# Altium integrated library iot-vehicle-tracking-system-main.IntLib: 85 symbols
Pins are listed as number, name and electrical type; pins without a type are passive.

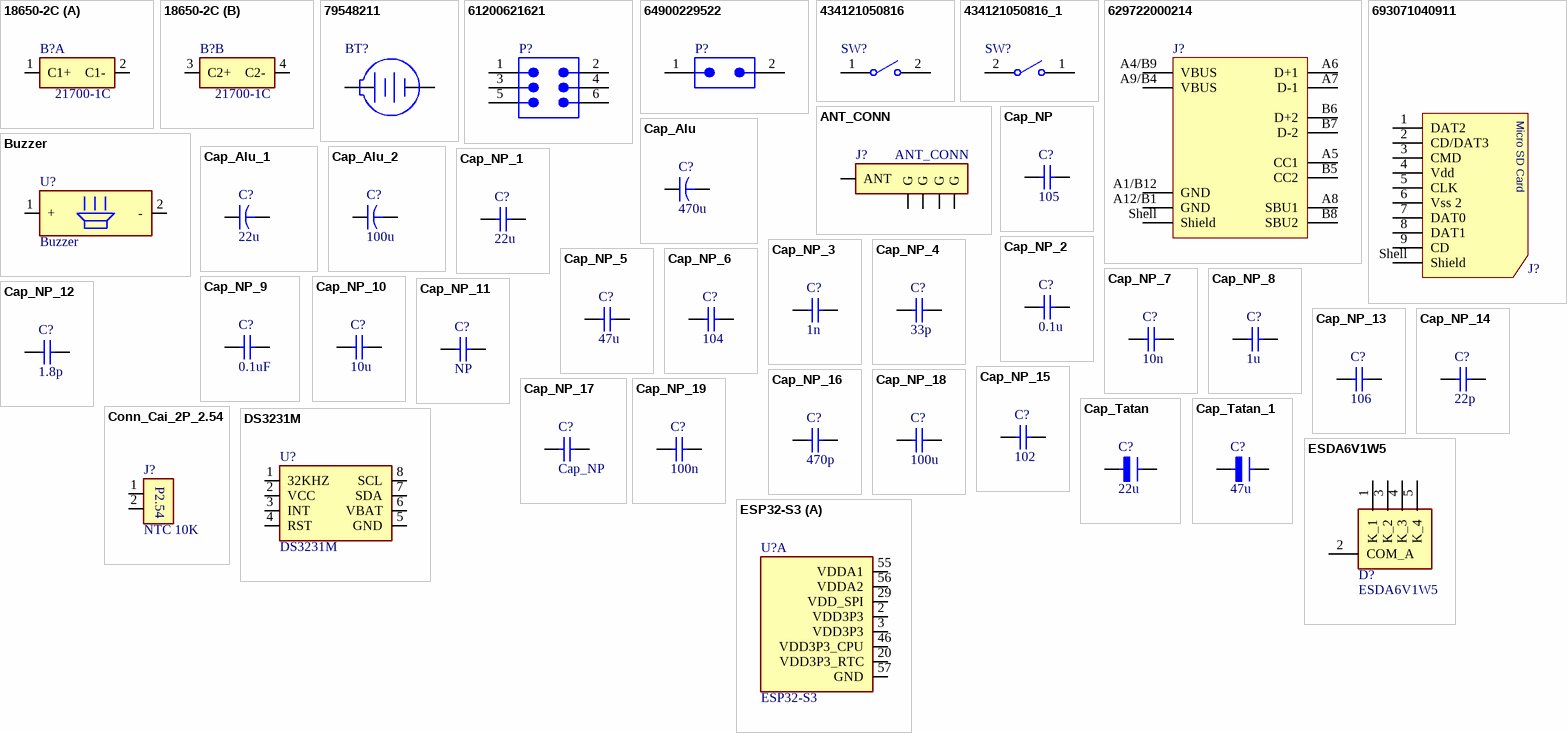
[diagram p0: symbols 18650-2C to ESP32-S3]

## 18650-2C
designator B?, comment 21700-1C
footprint 18650-2C (2Cell 18650 battery holder)
part A pins: 1 C1+, 2 C1-
part B pins: 3 C2+, 4 C2-

## 79548211
designator BT?  (value not drawn)
WA-BCPH Battery Holder, THT, battery type 2032; Manufacturer: Wurth Elektronik; Battery Type: 2032; Manufacturer Part Number: 79548211; Category: Battery Holders; Match Code: WA-BCPH; ComponentLink1Description: Website Link; ComponentLink1URL: https://www.we-online.com/redexpert/article/79548211?ad; ComponentLink2Description: Datasheet Link; ComponentLink2URL: https://www.we-online.com/redexpert/spec/79548211?ad; Mount: Through Hole; Min Operating Temperature: -40°C; Max Operating Temperature: 105°C; Packaging: Bag
footprint 79548211
pins: 1 +, 2 -

## 61200621621
designator P?  (value not drawn)
WR-BHD Male Box Header, THT Straight, pitch 2.54 mm, 2 Rows, 6 Pins; Manufacturer: Wurth Elektronik; Contact Resistance: 20 mΩ; Insulation Resistance: 1000 MΩ; Pitch: 2.54 mm; Rated Current: 3 A; Working Voltage: 250 V; Withstanding Voltage: 500 V; Manufacturer Part Number: 61200621621; Category: Wire-to-Board Connector; Match Code: WR-BHD; ComponentLink1Description: Website Link; ComponentLink1URL: https://www.we-online.com/redexpert/article/61200621621?ad; ComponentLink2Description: Datasheet Link; ComponentLink2URL: https://www.we-online.com/redexpert/spec/61200621621?ad; Mount: Through Hole; Min Operating Temperature: -40 °C; Max Operating Temperature: 105 °C; Packaging: Tray; Length: 15.28 mm; Width: 9.1 mm; Height: 9.1 mm; Gender: Male; Number of Pins: 6; Number of Rows: 2; Orientation: Straight
footprint 61200621621
pins: 1, 2, 3, 4, 5, 6

## 64900229522
designator P?  (value not drawn)
WR-MPC4 THT Male Right Angled Header, pitch 4.2mm, 2p; Manufacturer: Wurth Elektronik; Contact Resistance: 10mOhm; Insulation Resistance: 1000MOhm; Rated Current: 9A; Working Voltage: 600VAC; Manufacturer Part Number: 64900229522; Category: Wire-to-Board Connectors; Match Code: WR-MPC4; ComponentLink1Description: Website Link; ComponentLink1URL: https://www.we-online.com/redexpert/article/64900229522?ad; ComponentLink2Description: Datasheet Link; ComponentLink2URL: https://www.we-online.com/redexpert/spec/64900229522?ad; Mount: Through Hole; Min Operating Temperature: -40°C; Max Operating Temperature: 105°C; Packaging: Tray; Gender: Male; Number of Pins: 2; Number of Rows: 2; Orientation: Right Angled; Pitch: 4.2mm
footprint 64900229522
pins: 1, 2

## 434121050816
designator SW?  (value not drawn)
WS-TASV SMT Tact Switch, 6mm x 3.5mm, 160gf, SPST-NO, 12V, 50mA; Manufacturer: Wurth Elektronik; Washable: No; Manufacturer Part Number: 434121050816; Category: Tact Switch; Match Code: WS-TASV; ComponentLink1Description: Website Link; ComponentLink1URL: https://www.we-online.com/redexpert/article/434121050816?ad; ComponentLink2Description: Datasheet Link; ComponentLink2URL: https://www.we-online.com/redexpert/spec/434121050816?ad; Mount: Surface Mount; Min Operating Temperature: -40°C; Max Operating Temperature: 85°C; Packaging: Tape and Reel; Length: 6mm; Width: 3.5mm; Height: 5mm; Circuit: SPST-NO; Contact Material: Stainless Steel; Contact Plating: Silver; Operation Force: 160gf; Rated Current: 50mA; Rated Voltage (DC): 12V; Terminal Material: Copper Alloy; Terminal Plating: Silver
footprint 434121050816
pins: 1, 2

## 434121050816_1
designator SW?, comment 431256083716  (value not drawn)
WS-TASV SMT Tact Switch, 6mm x 3.5mm, 160gf, SPST-NO, 12V, 50mA; Manufacturer Part Number: 434121050816; Manufacturer: Wurth Elektronik; Washable: No; Category: Tact Switch; Match Code: WS-TASV; ComponentLink1Description: Website Link; ComponentLink1URL: https://www.we-online.com/redexpert/article/434121050816?ad; ComponentLink2Description: Datasheet Link; ComponentLink2URL: https://www.we-online.com/redexpert/spec/434121050816?ad; Mount: Surface Mount; Min Operating Temperature: -40°C; Max Operating Temperature: 85°C; Packaging: Tape and Reel; Length: 6mm; Width: 3.5mm; Height: 5mm; Circuit: SPST-NO; Contact Material: Stainless Steel; Contact Plating: Silver; Operation Force: 160gf; Rated Current: 50mA; Rated Voltage (DC): 12V; Terminal Material: Copper Alloy; Terminal Plating: Silver
footprint 434121050816
footprint 4312560837x6
pins: 1, 2

## 629722000214
designator J?  (value not drawn)
WR-COM USB 2.0 Type C Receptacle Horizontal SMT; Manufacturer: Wurth Elektronik; Match Code: WR-USB; Interface Type: Type C; Number of Ports: 1; Rated Current: 5; Working Voltage: 48V (DC); Manufacturer Part Number: 629722000214; Category: Input/Output Connector; ComponentLink1Description: Website Link; ComponentLink1URL: https://www.we-online.com/redexpert/article/629722000214?ad; ComponentLink2Description: Datasheet Link; ComponentLink2URL: https://www.we-online.com/redexpert/spec/629722000214?ad; Mount: Surface Mount; Min Operating Temperature: -40°C; Max Operating Temperature: 85°C; Packaging: Tape and Reel; Application: USB 2.0; Gender: Receptacle; Number of Pins: 16; Orientation: Horizontal
footprint 629722000214
pins: A1/B12 GND, A4/B9 VBUS, A5 CC1, A6 D+1, A7 D-1, A8 SBU1, A9/B4 VBUS, A12/B1 GND, B5 CC2, B6 D+2, B7 D-2, B8 SBU2, Shell Shield

## 693071040911
designator J?  (value not drawn)
WR-CRD SD Card Connector Push & Push Socket, 9 pins; Manufacturer: Wurth Elektronik; Durability: 10000 Mating cycles; Manufacturer Part Number: 693071040911; Category: Input/Output Connector; Match Code: WR-CRD; ComponentLink1Description: Website Link; ComponentLink1URL: https://www.we-online.com/redexpert/article/693071040911?ad; ComponentLink2Description: Datasheet Link; ComponentLink2URL: https://www.we-online.com/redexpert/spec/693071040911?ad; Mount: Surface Mount; Min Operating Temperature: -25 °C; Max Operating Temperature: 85 °C; Packaging: Tape and Reel; Application: Micro SD Card; Gender: Socket; Number of Pins: 9; Type: Push & Push
footprint 693071040911
pins: 1 DAT2, 2 CD/DAT3, 3 CMD, 4 Vdd, 5 CLK, 6 Vss 2, 7 DAT0, 8 DAT1, 9 CD, Shell Shield

## ANT_CONN
designator J?
ATENNA PIN 1
footprint IPEX (IPX surface mount receptacle plug)
footprint SMA EDEG
footprint SMA_RAF_15 (Antenna RF GSM GPRS)
footprint SMA_RAM_15 (SMA_RAM_15 GPS ANTENNA)
pins: 1 ANT, 2 G, 3 G, 4 G, 5 G

## Buzzer
designator U?
footprint D12-Buzzer
pins: 1 +, 2 -

## Cap_Alu
designator C?, comment 470u
Polarized aluminum capacitor
footprint ALU-SMD-CAP-D-6.3mm
footprint ALU-SMD-CAP-F-8mm
footprint ALU-SMD-CAP-G-10mm
footprint ALU-SMD-CAP-H-12.5mm
pins: 1, 2

## Cap_Alu_1
designator C?, comment 22u
Polarized aluminum capacitor
footprint ALU-SMD-CAP-D-6.3mm
footprint ALU-SMD-CAP-F-8mm
footprint ALU-SMD-CAP-G-10mm
footprint ALU-SMD-CAP-H-12.5mm
pins: 1, 2

## Cap_Alu_2
designator C?, comment 100u
Polarized aluminum capacitor
footprint ALU-SMD-CAP-D-6.3mm
footprint ALU-SMD-CAP-F-8mm
footprint ALU-SMD-CAP-G-10mm
footprint ALU-SMD-CAP-H-12.5mm
pins: 1, 2

## Cap_NP
designator C?, comment 105
Non-polarized capacitor
footprint Cap_0402 (Chip Capacitor, 2-Leads, Body 1.00x0.50mm, IPC Medium Density)
footprint CAP_0603 (Chip Capacitor, 2-Leads, Body 1.60x0.80mm, IPC Medium Density)
footprint CAP_0805 (Chip Capacitor, 2-Leads, Body 2.00x1.25mm, IPC Medium Density)
footprint CAP_1206 (Chip Capacitor, 2-Leads, Body 3.20x1.60mm, IPC Low Density)
pins: 1, 2

## Cap_NP_1
designator C?, comment 22u
Non-polarized capacitor
footprint Cap_0402 (Chip Capacitor, 2-Leads, Body 1.00x0.50mm, IPC Medium Density)
footprint CAP_0603 (Chip Capacitor, 2-Leads, Body 1.60x0.80mm, IPC Medium Density)
footprint CAP_0805 (Chip Capacitor, 2-Leads, Body 2.00x1.25mm, IPC Medium Density)
footprint CAP_1206 (Chip Capacitor, 2-Leads, Body 3.20x1.60mm, IPC Low Density)
pins: 1, 2

## Cap_NP_2
designator C?, comment 0.1u
Non-polarized capacitor
footprint Cap_0402 (Chip Capacitor, 2-Leads, Body 1.00x0.50mm, IPC Medium Density)
footprint CAP_0603 (Chip Capacitor, 2-Leads, Body 1.60x0.80mm, IPC Medium Density)
footprint CAP_0805 (Chip Capacitor, 2-Leads, Body 2.00x1.25mm, IPC Medium Density)
footprint CAP_1206 (Chip Capacitor, 2-Leads, Body 3.20x1.60mm, IPC Low Density)
pins: 1, 2

## Cap_NP_3
designator C?, comment 1n
Non-polarized capacitor
footprint Cap_0402 (Chip Capacitor, 2-Leads, Body 1.00x0.50mm, IPC Medium Density)
footprint CAP_0603 (Chip Capacitor, 2-Leads, Body 1.60x0.80mm, IPC Medium Density)
footprint CAP_0805 (Chip Capacitor, 2-Leads, Body 2.00x1.25mm, IPC Medium Density)
footprint CAP_1206 (Chip Capacitor, 2-Leads, Body 3.20x1.60mm, IPC Low Density)
pins: 1, 2

## Cap_NP_4
designator C?, comment 33p
Non-polarized capacitor
footprint Cap_0402 (Chip Capacitor, 2-Leads, Body 1.00x0.50mm, IPC Medium Density)
footprint CAP_0603 (Chip Capacitor, 2-Leads, Body 1.60x0.80mm, IPC Medium Density)
footprint CAP_0805 (Chip Capacitor, 2-Leads, Body 2.00x1.25mm, IPC Medium Density)
footprint CAP_1206 (Chip Capacitor, 2-Leads, Body 3.20x1.60mm, IPC Low Density)
pins: 1, 2

## Cap_NP_5
designator C?, comment 47u
Non-polarized capacitor
footprint C_Tanta_C6032
footprint CAP_0603 (Chip Capacitor, 2-Leads, Body 1.60x0.80mm, IPC Medium Density)
footprint CAP_0805 (Chip Capacitor, 2-Leads, Body 2.00x1.25mm, IPC Medium Density)
footprint CAP_1206 (Chip Capacitor, 2-Leads, Body 3.20x1.60mm, IPC Low Density)
pins: 1, 2

## Cap_NP_6
designator C?, comment 104
Non-polarized capacitor
footprint Cap_0402 (Chip Capacitor, 2-Leads, Body 1.00x0.50mm, IPC Medium Density)
footprint CAP_0603 (Chip Capacitor, 2-Leads, Body 1.60x0.80mm, IPC Medium Density)
footprint CAP_0805 (Chip Capacitor, 2-Leads, Body 2.00x1.25mm, IPC Medium Density)
footprint CAP_1206 (Chip Capacitor, 2-Leads, Body 3.20x1.60mm, IPC Low Density)
pins: 1, 2

## Cap_NP_7
designator C?, comment 10n
Non-polarized capacitor
footprint Cap_0402 (Chip Capacitor, 2-Leads, Body 1.00x0.50mm, IPC Medium Density)
footprint CAP_0603 (Chip Capacitor, 2-Leads, Body 1.60x0.80mm, IPC Medium Density)
footprint CAP_0805 (Chip Capacitor, 2-Leads, Body 2.00x1.25mm, IPC Medium Density)
footprint CAP_1206 (Chip Capacitor, 2-Leads, Body 3.20x1.60mm, IPC Low Density)
pins: 1, 2

## Cap_NP_8
designator C?, comment 1u
Non-polarized capacitor
footprint Cap_0402 (Chip Capacitor, 2-Leads, Body 1.00x0.50mm, IPC Medium Density)
footprint CAP_0603 (Chip Capacitor, 2-Leads, Body 1.60x0.80mm, IPC Medium Density)
footprint CAP_0805 (Chip Capacitor, 2-Leads, Body 2.00x1.25mm, IPC Medium Density)
footprint CAP_1206 (Chip Capacitor, 2-Leads, Body 3.20x1.60mm, IPC Low Density)
pins: 1, 2

## Cap_NP_9
designator C?, comment 0.1uF
Non-polarized capacitor
footprint Cap_0402 (Chip Capacitor, 2-Leads, Body 1.00x0.50mm, IPC Medium Density)
footprint CAP_0603 (Chip Capacitor, 2-Leads, Body 1.60x0.80mm, IPC Medium Density)
footprint CAP_0805 (Chip Capacitor, 2-Leads, Body 2.00x1.25mm, IPC Medium Density)
footprint CAP_1206 (Chip Capacitor, 2-Leads, Body 3.20x1.60mm, IPC Low Density)
pins: 1, 2

## Cap_NP_10
designator C?, comment 10u
Non-polarized capacitor
footprint Cap_0402 (Chip Capacitor, 2-Leads, Body 1.00x0.50mm, IPC Medium Density)
footprint CAP_0603 (Chip Capacitor, 2-Leads, Body 1.60x0.80mm, IPC Medium Density)
footprint CAP_0805 (Chip Capacitor, 2-Leads, Body 2.00x1.25mm, IPC Medium Density)
footprint CAP_1206 (Chip Capacitor, 2-Leads, Body 3.20x1.60mm, IPC Low Density)
pins: 1, 2

## Cap_NP_11
designator C?, comment NP
Non-polarized capacitor
footprint Cap_0402 (Chip Capacitor, 2-Leads, Body 1.00x0.50mm, IPC Medium Density)
footprint CAP_0603 (Chip Capacitor, 2-Leads, Body 1.60x0.80mm, IPC Medium Density)
footprint CAP_0805 (Chip Capacitor, 2-Leads, Body 2.00x1.25mm, IPC Medium Density)
footprint CAP_1206 (Chip Capacitor, 2-Leads, Body 3.20x1.60mm, IPC Low Density)
pins: 1, 2

## Cap_NP_12
designator C?, comment 1.8p
Non-polarized capacitor
footprint Cap_0402 (Chip Capacitor, 2-Leads, Body 1.00x0.50mm, IPC Medium Density)
footprint CAP_0603 (Chip Capacitor, 2-Leads, Body 1.60x0.80mm, IPC Medium Density)
footprint CAP_0805 (Chip Capacitor, 2-Leads, Body 2.00x1.25mm, IPC Medium Density)
footprint CAP_1206 (Chip Capacitor, 2-Leads, Body 3.20x1.60mm, IPC Low Density)
pins: 1, 2

## Cap_NP_13
designator C?, comment 106
Non-polarized capacitor
footprint Cap_0402 (Chip Capacitor, 2-Leads, Body 1.00x0.50mm, IPC Medium Density)
footprint CAP_0603 (Chip Capacitor, 2-Leads, Body 1.60x0.80mm, IPC Medium Density)
footprint CAP_0805 (Chip Capacitor, 2-Leads, Body 2.00x1.25mm, IPC Medium Density)
footprint CAP_1206 (Chip Capacitor, 2-Leads, Body 3.20x1.60mm, IPC Low Density)
pins: 1, 2

## Cap_NP_14
designator C?, comment 22p
Non-polarized capacitor
footprint Cap_0402 (Chip Capacitor, 2-Leads, Body 1.00x0.50mm, IPC Medium Density)
footprint CAP_0603 (Chip Capacitor, 2-Leads, Body 1.60x0.80mm, IPC Medium Density)
footprint CAP_0805 (Chip Capacitor, 2-Leads, Body 2.00x1.25mm, IPC Medium Density)
footprint CAP_1206 (Chip Capacitor, 2-Leads, Body 3.20x1.60mm, IPC Low Density)
pins: 1, 2

## Cap_NP_15
designator C?, comment 102
Non-polarized capacitor
footprint Cap_0402 (Chip Capacitor, 2-Leads, Body 1.00x0.50mm, IPC Medium Density)
footprint CAP_0603 (Chip Capacitor, 2-Leads, Body 1.60x0.80mm, IPC Medium Density)
footprint CAP_0805 (Chip Capacitor, 2-Leads, Body 2.00x1.25mm, IPC Medium Density)
footprint CAP_1206 (Chip Capacitor, 2-Leads, Body 3.20x1.60mm, IPC Low Density)
pins: 1, 2

## Cap_NP_16
designator C?, comment 470p
Non-polarized capacitor
footprint Cap_0402 (Chip Capacitor, 2-Leads, Body 1.00x0.50mm, IPC Medium Density)
footprint CAP_0603 (Chip Capacitor, 2-Leads, Body 1.60x0.80mm, IPC Medium Density)
footprint CAP_0805 (Chip Capacitor, 2-Leads, Body 2.00x1.25mm, IPC Medium Density)
footprint CAP_1206 (Chip Capacitor, 2-Leads, Body 3.20x1.60mm, IPC Low Density)
pins: 1, 2

## Cap_NP_17
designator C?, comment Cap_NP
Non-polarized capacitor
footprint Cap_0402 (Chip Capacitor, 2-Leads, Body 1.00x0.50mm, IPC Medium Density)
footprint CAP_0603 (Chip Capacitor, 2-Leads, Body 1.60x0.80mm, IPC Medium Density)
footprint CAP_0805 (Chip Capacitor, 2-Leads, Body 2.00x1.25mm, IPC Medium Density)
footprint CAP_1206 (Chip Capacitor, 2-Leads, Body 3.20x1.60mm, IPC Low Density)
pins: 1, 2

## Cap_NP_18
designator C?, comment 100u
Non-polarized capacitor
footprint Cap_0402 (Chip Capacitor, 2-Leads, Body 1.00x0.50mm, IPC Medium Density)
footprint CAP_0603 (Chip Capacitor, 2-Leads, Body 1.60x0.80mm, IPC Medium Density)
footprint CAP_0805 (Chip Capacitor, 2-Leads, Body 2.00x1.25mm, IPC Medium Density)
footprint CAP_1206 (Chip Capacitor, 2-Leads, Body 3.20x1.60mm, IPC Low Density)
pins: 1, 2

## Cap_NP_19
designator C?, comment 100n
Non-polarized capacitor
footprint Cap_0402 (Chip Capacitor, 2-Leads, Body 1.00x0.50mm, IPC Medium Density)
footprint CAP_0603 (Chip Capacitor, 2-Leads, Body 1.60x0.80mm, IPC Medium Density)
footprint CAP_0805 (Chip Capacitor, 2-Leads, Body 2.00x1.25mm, IPC Medium Density)
footprint CAP_1206 (Chip Capacitor, 2-Leads, Body 3.20x1.60mm, IPC Low Density)
pins: 1, 2

## Cap_Tatan
designator C?, comment 22u
Polarized tantaLum capacitor
footprint C_Tanta_A3216
footprint C_Tanta_B3528
footprint C_Tanta_C6032
footprint C_Tanta_D7343
footprint C_TANTA_E
pins: 1, 2

## Cap_Tatan_1
designator C?, comment 47u
Polarized tantaLum capacitor
footprint C_Tanta_A3216
footprint C_Tanta_B3528
footprint C_Tanta_C6032
footprint C_Tanta_D7343
footprint C_TANTA_E
pins: 1, 2

## Conn_Cai_2P_2.54
designator J?, comment NTC 10K
footprint JP 1x2 CC
footprint JP 1x2 CT
footprint XH2.54M-2
pins: 1, 2
text: P2.54

## DS3231M
designator U?
I2C realtime clock (RTC)
footprint SOP8-P1.27 (SOP, 8-Leads, Body 4.90x3.90mm, Pitch 1.27mm, IPC Medium Density)
pins: 1 32KHZ, 2 VCC, 3 INT, 4 RST, 5 GND, 6 VBAT, 7 SDA, 8 SCL

## ESDA6V1W5
designator D?
Integrated Circuit; Manufacturer_Name: STMicroelectronics; Datasheet Link: http://www.st.com/st-web-ui/static/active/en/resource/technical/document/datasheet/CD00064033.pdf; Height: 1.1mm; Manufacturer_Part_Number: ESDA6V1W5; Mouser Part Number: 511-ESDA6V1W5; Mouser Price/Stock: https://www.mouser.co.uk/ProductDetail/STMicroelectronics/ESDA6V1W5?qs=9NrABl3fj%2FrhT5vdkOmqXg%3D%3D; Arrow Part Number: ESDA6V1W5; Arrow Price/Stock: https://www.arrow.com/en/products/esda6v1w5/stmicroelectronics?utm_currency=USD&region=nac
footprint SOT65P210X110-5N (Footprint not found)
pins: 1 K_1, 2 COM_A, 3 K_2, 4 K_3, 5 K_4

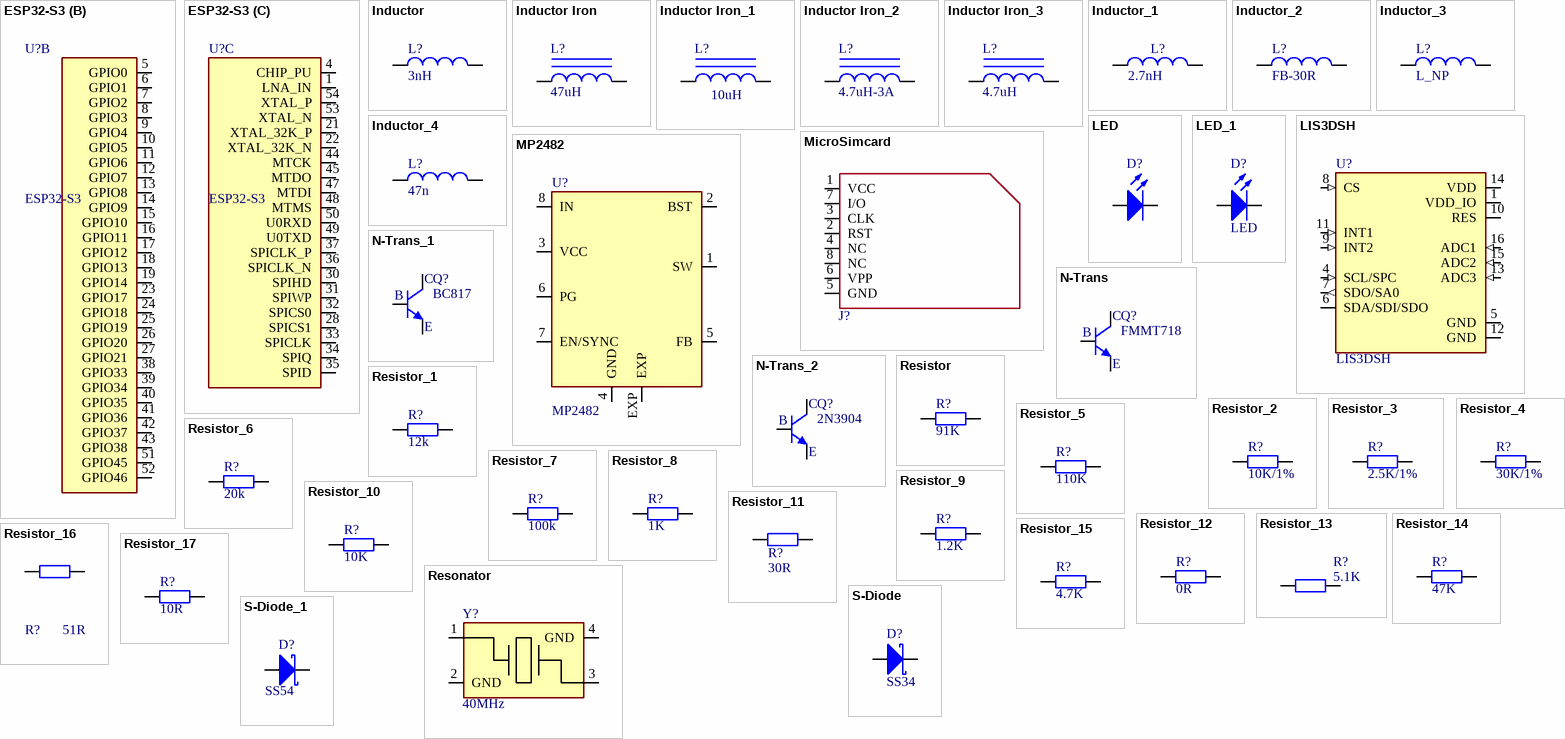
[diagram p1: symbols ESP32-S3 to S-Diode_1]

## ESP32-S3
designator U?
footprint QFN56 (QFN, 56-Leads, Body 7.00x7.00mm, Pitch 0.40mm, Thermal Pad 4.00x4.00mm, IPC Low Density)
part A pins: 2 VDD3P3, 3 VDD3P3, 20 VDD3P3_RTC, 29 VDD_SPI, 46 VDD3P3_CPU, 55 VDDA1, 56 VDDA2, 57 GND
part B pins: 5 GPIO0, 6 GPIO1, 7 GPIO2, 8 GPIO3, 9 GPIO4, 10 GPIO5, 11 GPIO6, 12 GPIO7, 13 GPIO8, 14 GPIO9, 15 GPIO10, 16 GPIO11, 17 GPIO12, 18 GPIO13, 19 GPIO14, 23 GPIO17, 24 GPIO18, 25 GPIO19, 26 GPIO20, 27 GPIO21, 38 GPIO33, 39 GPIO34, 40 GPIO35, 41 GPIO36, 42 GPIO37, 43 GPIO38, 51 GPIO45, 52 GPIO46
part C pins: 1 LNA_IN, 4 CHIP_PU, 21 XTAL_32K_P, 22 XTAL_32K_N, 28 SPICS1, 30 SPIHD, 31 SPIWP, 32 SPICS0, 33 SPICLK, 34 SPIQ, 35 SPID, 36 SPICLK_N, 37 SPICLK_P, 44 MTCK, 45 MTDO, 47 MTDI, 48 MTMS, 49 U0TXD, 50 U0RXD, 53 XTAL_N, 54 XTAL_P

## Inductor
designator L?, comment 3nH
Inductor; Code_IEC: 1005; Published: 8-Jun-2000; LatestRevisionDate: 29-May-2009; LatestRevisionNote: IPC-7351 Footprint Added.; PackageReference: 0402-A; Publisher: Altium Limited; PackageDescription: Chip Inductor; Code_JEITA: 0402
footprint INDC-0402 (Chip Inductor, 2-Leads, Body 1.00x0.50mm, IPC Low Density)
footprint INDC-0603 (Chip Inductor, 2-Leads, Body 1.60x0.85mm, IPC Low Density)
footprint INDC-0805 (Chip Inductor, 2-Leads, Body 2.10x1.35mm, IPC Low Density)
pins: 1, 2

## Inductor Iron
designator L?, comment 47uH
Magnetic-Core Inductor; Published: 24-Mar-1999; LatestRevisionDate: 17-Jul-2002; LatestRevisionNote: Re-released for DXP Platform.; PackageReference: AXIAL-0.9; Publisher: Altium Limited; PackageDescription: Axial Device, Thru-Hole; 2 Leads; 0.9 in Pin Spacing
footprint INDC-0402 (Chip Inductor, 2-Leads, Body 1.00x0.50mm, IPC Low Density)
footprint INDC-0603 (Chip Inductor, 2-Leads, Body 1.60x0.85mm, IPC Low Density)
footprint INDC-0805 (Chip Inductor, 2-Leads, Body 2.10x1.35mm, IPC Low Density)
footprint IND-1040 (Molded Inductor, 2-Leads, Body 10.25x10.10mm, IPC Low Density)
footprint IND-0520 (Molded Inductor, 2-Leads, Body 5.20x5.70mm, IPC Medium Density)
footprint IND-0630 (Molded Inductor, 2-Leads, Body 7.05x7.65mm, IPC Low Density)
footprint IND_CDRH127-4R7NC_SUM
pins: 1, 2

## Inductor Iron_1
designator L?, comment 10uH
Magnetic-Core Inductor; Published: 24-Mar-1999; LatestRevisionDate: 17-Jul-2002; LatestRevisionNote: Re-released for DXP Platform.; PackageReference: AXIAL-0.9; Publisher: Altium Limited; PackageDescription: Axial Device, Thru-Hole; 2 Leads; 0.9 in Pin Spacing
footprint INDC-0402 (Chip Inductor, 2-Leads, Body 1.00x0.50mm, IPC Low Density)
footprint INDC-0603 (Chip Inductor, 2-Leads, Body 1.60x0.85mm, IPC Low Density)
footprint INDC-0805 (Chip Inductor, 2-Leads, Body 2.10x1.35mm, IPC Low Density)
footprint IND-1040 (Molded Inductor, 2-Leads, Body 10.25x10.10mm, IPC Low Density)
footprint IND-0520 (Molded Inductor, 2-Leads, Body 5.20x5.70mm, IPC Medium Density)
footprint IND-0630 (Molded Inductor, 2-Leads, Body 7.05x7.65mm, IPC Low Density)
footprint INDC-CD47
footprint CDRH104 (Precision Wire Wound Inductor, 2-Leads, Body 10.38x10.00mm, IPC Medium Density)
footprint CD75
pins: 1, 2

## Inductor Iron_2
designator L?, comment 4.7uH-3A
Magnetic-Core Inductor; Published: 24-Mar-1999; LatestRevisionDate: 17-Jul-2002; LatestRevisionNote: Re-released for DXP Platform.; PackageReference: AXIAL-0.9; Publisher: Altium Limited; PackageDescription: Axial Device, Thru-Hole; 2 Leads; 0.9 in Pin Spacing
footprint INDC-0402 (Chip Inductor, 2-Leads, Body 1.00x0.50mm, IPC Low Density)
footprint INDC-0603 (Chip Inductor, 2-Leads, Body 1.60x0.85mm, IPC Low Density)
footprint INDC-0805 (Chip Inductor, 2-Leads, Body 2.10x1.35mm, IPC Low Density)
footprint IND-1040 (Molded Inductor, 2-Leads, Body 10.25x10.10mm, IPC Low Density)
footprint IND_CDRH127-4R7NC_SUM
footprint IND-0630 (Molded Inductor, 2-Leads, Body 7.05x7.65mm, IPC Low Density)
footprint IND_CDRH127-4R7NC_SUM
pins: 1, 2

## Inductor Iron_3
designator L?, comment 4.7uH
Magnetic-Core Inductor; Published: 24-Mar-1999; LatestRevisionDate: 17-Jul-2002; LatestRevisionNote: Re-released for DXP Platform.; PackageReference: AXIAL-0.9; Publisher: Altium Limited; PackageDescription: Axial Device, Thru-Hole; 2 Leads; 0.9 in Pin Spacing
footprint INDC-0402 (Chip Inductor, 2-Leads, Body 1.00x0.50mm, IPC Low Density)
footprint INDC-0603 (Chip Inductor, 2-Leads, Body 1.60x0.85mm, IPC Low Density)
footprint INDC-0805 (Chip Inductor, 2-Leads, Body 2.10x1.35mm, IPC Low Density)
footprint IND-1040 (Molded Inductor, 2-Leads, Body 10.25x10.10mm, IPC Low Density)
footprint IND-0520 (Molded Inductor, 2-Leads, Body 5.20x5.70mm, IPC Medium Density)
footprint IND-0630 (Molded Inductor, 2-Leads, Body 7.05x7.65mm, IPC Low Density)
footprint IND_CDRH127-4R7NC_SUM
pins: 1, 2

## Inductor_1
designator L?, comment 2.7nH
Inductor; Code_IEC: 1005; Published: 8-Jun-2000; LatestRevisionDate: 29-May-2009; LatestRevisionNote: IPC-7351 Footprint Added.; PackageReference: 0402-A; Publisher: Altium Limited; PackageDescription: Chip Inductor; Code_JEITA: 0402
footprint INDC-0402 (Chip Inductor, 2-Leads, Body 1.00x0.50mm, IPC Low Density)
footprint INDC-0603 (Chip Inductor, 2-Leads, Body 1.60x0.85mm, IPC Low Density)
footprint INDC-0805 (Chip Inductor, 2-Leads, Body 2.10x1.35mm, IPC Low Density)
pins: 1, 2

## Inductor_2
designator L?, comment FB-30R
Inductor; Code_IEC: 1005; Published: 8-Jun-2000; LatestRevisionDate: 29-May-2009; LatestRevisionNote: IPC-7351 Footprint Added.; PackageReference: 0402-A; Publisher: Altium Limited; PackageDescription: Chip Inductor; Code_JEITA: 0402
footprint INDC-0402 (Chip Inductor, 2-Leads, Body 1.00x0.50mm, IPC Low Density)
footprint INDC-0603 (Chip Inductor, 2-Leads, Body 1.60x0.85mm, IPC Low Density)
footprint INDC-0805 (Chip Inductor, 2-Leads, Body 2.10x1.35mm, IPC Low Density)
pins: 1, 2

## Inductor_3
designator L?, comment L_NP
Inductor; Code_IEC: 1005; Published: 8-Jun-2000; LatestRevisionDate: 29-May-2009; LatestRevisionNote: IPC-7351 Footprint Added.; PackageReference: 0402-A; Publisher: Altium Limited; PackageDescription: Chip Inductor; Code_JEITA: 0402
footprint INDC-0402 (Chip Inductor, 2-Leads, Body 1.00x0.50mm, IPC Low Density)
footprint INDC-0603 (Chip Inductor, 2-Leads, Body 1.60x0.85mm, IPC Low Density)
footprint INDC-0805 (Chip Inductor, 2-Leads, Body 2.10x1.35mm, IPC Low Density)
pins: 1, 2

## Inductor_4
designator L?, comment 47n
Inductor; Code_IEC: 1005; Published: 8-Jun-2000; LatestRevisionDate: 29-May-2009; LatestRevisionNote: IPC-7351 Footprint Added.; PackageReference: 0402-A; Publisher: Altium Limited; PackageDescription: Chip Inductor; Code_JEITA: 0402
footprint INDC-0402 (Chip Inductor, 2-Leads, Body 1.00x0.50mm, IPC Low Density)
footprint INDC-0603 (Chip Inductor, 2-Leads, Body 1.60x0.85mm, IPC Low Density)
footprint INDC-0805 (Chip Inductor, 2-Leads, Body 2.10x1.35mm, IPC Low Density)
pins: 1, 2

## LED
designator D?
Light Emitting Diode
footprint LED-0805-Green
footprint LED-0805-Orange
footprint LED-0805-Red
footprint LED-0805-Yellow
footprint LED-1206-Blue (Compoment SMD 120x60mil)
footprint LED-1206-Green
footprint LED-1206-Orange
footprint LED-1206-Red
footprint LED-1206-Yellow
footprint LED-3528-BLUE
footprint LED-3528-GREEN
footprint LED-3528-ORANGE
footprint LED-3528-RED
footprint LED-3528-WHITE
footprint LED-3528-YELLOW
pins: 1 A, 2 K

## LED_1
designator D?, comment LED
Light Emitting Diode
footprint LED-0805-Green
footprint LED-0805-Orange
footprint LED-0805-Red
footprint LED-0805-Yellow
footprint LED-1206-Blue (Compoment SMD 120x60mil)
footprint LED-1206-Green
footprint LED-1206-Orange
footprint LED-1206-Red
footprint LED-1206-Yellow
footprint LED-3528-BLUE
footprint LED-3528-GREEN
footprint LED-3528-ORANGE
footprint LED-3528-RED
footprint LED-3528-WHITE
footprint LED-3528-YELLOW
pins: 1 A, 2 K

## LIS3DSH
designator U?
Accelerometer X, Y, Z Axis Â±2g, 4g, 6g, 8g, 16g 1.56Hz ~ 800Hz 16-LGA _3x3_; MF: STMicroelectronics; Availability: Unavailable; Value: *; Package: LGA-16 STMicroelectronics; Price: None; SnapEDA_Link: https://www.snapeda.com/parts/LIS3DSH/STMicroelectronics/view-part/422648/?ref=snap; MP: LIS3DSH
footprint LGA16R50P5X3_300X300X100N
pins: 1 VDD_IO (power), 4 SCL/SPC (in), 5 GND (power), 6 SDA/SDI/SDO (io), 7 SDO/SA0 (out), 8 CS (in), 9 INT2 (in), 10 RES (power), 11 INT1 (in), 12 GND (power), 13 ADC3 (in), 14 VDD (power), 15 ADC2 (in), 16 ADC1 (in)

## MicroSimcard
designator J?  (value not drawn)
Micro Simcard Socket
footprint MICRO SIM SOCKET
footprint MICRO SIM SOCKET
pins: 1 VCC, 2 RST, 3 CLK, 4 NC, 5 GND, 6 VPP, 7 I/O, 8 NC

## MP2482
designator U?
5A, 30V, 420kHz Step-Down Converter; MF: Monolithic Power Systems Inc.; SnapEDA_Link: https://www.snapeda.com/parts/MP2482/Monolithic+Power+Systems+Inc./view-part/?ref=snap; Package: None; Value: *; MP: MP2482; Check_prices: https://www.snapeda.com/parts/MP2482/Monolithic+Power+Systems+Inc./view-part/?ref=eda
footprint SOP8-P
pins: 1 SW (io), 2 BST (io), 3 VCC (io), 4 GND (io), 5 FB (io), 6 PG (io), 7 EN/SYNC (io), 8 IN (io), EXP (io)

## N-Trans
designator Q?, comment FMMT718
footprint SOT-23 (SOT 23 _ 1-3-2)
pins: 1 B, 2 C, 3 E

## N-Trans_1
designator Q?, comment BC817
footprint SOT-23 (SOT 23 _ 1-3-2)
pins: 1 B, 2 C, 3 E

## N-Trans_2
designator Q?, comment 2N3904
footprint SOT-23 (SOT 23 _ 1-3-2)
pins: 1 B, 2 C, 3 E

## Resistor
designator R?, comment 91K
footprint RES_0402 (Chip Resistor, 2-Leads, Body 1.00x0.50mm, IPC Low Density)
footprint RES_0603 (Chip Resistor, 2-Leads, Body 1.60x0.80mm, IPC Medium Density)
footprint RES_0805 (Chip Resistor, 2-Leads, Body 2.00x1.25mm, IPC Low Density)
footprint RES_1206 (Chip Resistor, 2-Leads, Body 3.30x1.60mm, IPC Medium Density)
footprint RES_1210 (Chip Resistor, 2-Leads, Body 3.22x2.54mm, IPC Low Density)
footprint RES_2512 (Chip Resistor, 2-Leads, Body 6.35x3.20mm, IPC Low Density)
pins: 1, 2

## Resistor_1
designator R?, comment 12k
footprint RES_0402 (Chip Resistor, 2-Leads, Body 1.00x0.50mm, IPC Low Density)
footprint RES_0603 (Chip Resistor, 2-Leads, Body 1.60x0.80mm, IPC Medium Density)
footprint RES_0805 (Chip Resistor, 2-Leads, Body 2.00x1.25mm, IPC Low Density)
footprint RES_1206 (Chip Resistor, 2-Leads, Body 3.30x1.60mm, IPC Medium Density)
footprint RES_1210 (Chip Resistor, 2-Leads, Body 3.22x2.54mm, IPC Low Density)
footprint RES_2512 (Chip Resistor, 2-Leads, Body 6.35x3.20mm, IPC Low Density)
pins: 1, 2

## Resistor_2
designator R?, comment 10K/1%
footprint RES_0402 (Chip Resistor, 2-Leads, Body 1.00x0.50mm, IPC Low Density)
footprint RES_0603 (Chip Resistor, 2-Leads, Body 1.60x0.80mm, IPC Medium Density)
footprint RES_0805 (Chip Resistor, 2-Leads, Body 2.00x1.25mm, IPC Low Density)
footprint RES_1206 (Chip Resistor, 2-Leads, Body 3.30x1.60mm, IPC Medium Density)
footprint RES_1210 (Chip Resistor, 2-Leads, Body 3.22x2.54mm, IPC Low Density)
footprint RES_2512 (Chip Resistor, 2-Leads, Body 6.35x3.20mm, IPC Low Density)
pins: 1, 2

## Resistor_3
designator R?, comment 2.5K/1%
footprint RES_0402 (Chip Resistor, 2-Leads, Body 1.00x0.50mm, IPC Low Density)
footprint RES_0603 (Chip Resistor, 2-Leads, Body 1.60x0.80mm, IPC Medium Density)
footprint RES_0805 (Chip Resistor, 2-Leads, Body 2.00x1.25mm, IPC Low Density)
footprint RES_1206 (Chip Resistor, 2-Leads, Body 3.30x1.60mm, IPC Medium Density)
footprint RES_1210 (Chip Resistor, 2-Leads, Body 3.22x2.54mm, IPC Low Density)
footprint RES_2512 (Chip Resistor, 2-Leads, Body 6.35x3.20mm, IPC Low Density)
pins: 1, 2

## Resistor_4
designator R?, comment 30K/1%
footprint RES_0402 (Chip Resistor, 2-Leads, Body 1.00x0.50mm, IPC Low Density)
footprint RES_0603 (Chip Resistor, 2-Leads, Body 1.60x0.80mm, IPC Medium Density)
footprint RES_0805 (Chip Resistor, 2-Leads, Body 2.00x1.25mm, IPC Low Density)
footprint RES_1206 (Chip Resistor, 2-Leads, Body 3.30x1.60mm, IPC Medium Density)
footprint RES_1210 (Chip Resistor, 2-Leads, Body 3.22x2.54mm, IPC Low Density)
footprint RES_2512 (Chip Resistor, 2-Leads, Body 6.35x3.20mm, IPC Low Density)
pins: 1, 2

## Resistor_5
designator R?, comment 110K
footprint RES_0402 (Chip Resistor, 2-Leads, Body 1.00x0.50mm, IPC Low Density)
footprint RES_0603 (Chip Resistor, 2-Leads, Body 1.60x0.80mm, IPC Medium Density)
footprint RES_0805 (Chip Resistor, 2-Leads, Body 2.00x1.25mm, IPC Low Density)
footprint RES_1206 (Chip Resistor, 2-Leads, Body 3.30x1.60mm, IPC Medium Density)
footprint RES_1210 (Chip Resistor, 2-Leads, Body 3.22x2.54mm, IPC Low Density)
footprint RES_2512 (Chip Resistor, 2-Leads, Body 6.35x3.20mm, IPC Low Density)
pins: 1, 2

## Resistor_6
designator R?, comment 20k
footprint RES_0402 (Chip Resistor, 2-Leads, Body 1.00x0.50mm, IPC Low Density)
footprint RES_0603 (Chip Resistor, 2-Leads, Body 1.60x0.80mm, IPC Medium Density)
footprint RES_0805 (Chip Resistor, 2-Leads, Body 2.00x1.25mm, IPC Low Density)
footprint RES_1206 (Chip Resistor, 2-Leads, Body 3.30x1.60mm, IPC Medium Density)
footprint RES_1210 (Chip Resistor, 2-Leads, Body 3.22x2.54mm, IPC Low Density)
footprint RES_2512 (Chip Resistor, 2-Leads, Body 6.35x3.20mm, IPC Low Density)
pins: 1, 2

## Resistor_7
designator R?, comment 100k
footprint RES_0402 (Chip Resistor, 2-Leads, Body 1.00x0.50mm, IPC Low Density)
footprint RES_0603 (Chip Resistor, 2-Leads, Body 1.60x0.80mm, IPC Medium Density)
footprint RES_0805 (Chip Resistor, 2-Leads, Body 2.00x1.25mm, IPC Low Density)
footprint RES_1206 (Chip Resistor, 2-Leads, Body 3.30x1.60mm, IPC Medium Density)
footprint RES_1210 (Chip Resistor, 2-Leads, Body 3.22x2.54mm, IPC Low Density)
footprint RES_2512 (Chip Resistor, 2-Leads, Body 6.35x3.20mm, IPC Low Density)
pins: 1, 2

## Resistor_8
designator R?, comment 1K
footprint RES_0402 (Chip Resistor, 2-Leads, Body 1.00x0.50mm, IPC Low Density)
footprint RES_0603 (Chip Resistor, 2-Leads, Body 1.60x0.80mm, IPC Medium Density)
footprint RES_0805 (Chip Resistor, 2-Leads, Body 2.00x1.25mm, IPC Low Density)
footprint RES_1206 (Chip Resistor, 2-Leads, Body 3.30x1.60mm, IPC Medium Density)
footprint RES_1210 (Chip Resistor, 2-Leads, Body 3.22x2.54mm, IPC Low Density)
footprint RES_2512 (Chip Resistor, 2-Leads, Body 6.35x3.20mm, IPC Low Density)
pins: 1, 2

## Resistor_9
designator R?, comment 1.2K
footprint RES_0402 (Chip Resistor, 2-Leads, Body 1.00x0.50mm, IPC Low Density)
footprint RES_0603 (Chip Resistor, 2-Leads, Body 1.60x0.80mm, IPC Medium Density)
footprint RES_0805 (Chip Resistor, 2-Leads, Body 2.00x1.25mm, IPC Low Density)
footprint RES_1206 (Chip Resistor, 2-Leads, Body 3.30x1.60mm, IPC Medium Density)
footprint RES_1210 (Chip Resistor, 2-Leads, Body 3.22x2.54mm, IPC Low Density)
footprint RES_2512 (Chip Resistor, 2-Leads, Body 6.35x3.20mm, IPC Low Density)
pins: 1, 2

## Resistor_10
designator R?, comment 10K
footprint RES_0402 (Chip Resistor, 2-Leads, Body 1.00x0.50mm, IPC Low Density)
footprint RES_0603 (Chip Resistor, 2-Leads, Body 1.60x0.80mm, IPC Medium Density)
footprint RES_0805 (Chip Resistor, 2-Leads, Body 2.00x1.25mm, IPC Low Density)
footprint RES_1206 (Chip Resistor, 2-Leads, Body 3.30x1.60mm, IPC Medium Density)
footprint RES_1210 (Chip Resistor, 2-Leads, Body 3.22x2.54mm, IPC Low Density)
footprint RES_2512 (Chip Resistor, 2-Leads, Body 6.35x3.20mm, IPC Low Density)
pins: 1, 2

## Resistor_11
designator R?, comment 30R
footprint RES_0402 (Chip Resistor, 2-Leads, Body 1.00x0.50mm, IPC Low Density)
footprint RES_0603 (Chip Resistor, 2-Leads, Body 1.60x0.80mm, IPC Medium Density)
footprint RES_0805 (Chip Resistor, 2-Leads, Body 2.00x1.25mm, IPC Low Density)
footprint RES_1206 (Chip Resistor, 2-Leads, Body 3.30x1.60mm, IPC Medium Density)
footprint RES_1210 (Chip Resistor, 2-Leads, Body 3.22x2.54mm, IPC Low Density)
footprint RES_2512 (Chip Resistor, 2-Leads, Body 6.35x3.20mm, IPC Low Density)
pins: 1, 2

## Resistor_12
designator R?, comment 0R
footprint RES_0402 (Chip Resistor, 2-Leads, Body 1.00x0.50mm, IPC Low Density)
footprint RES_0603 (Chip Resistor, 2-Leads, Body 1.60x0.80mm, IPC Medium Density)
footprint RES_0805 (Chip Resistor, 2-Leads, Body 2.00x1.25mm, IPC Low Density)
footprint RES_1206 (Chip Resistor, 2-Leads, Body 3.30x1.60mm, IPC Medium Density)
footprint RES_1210 (Chip Resistor, 2-Leads, Body 3.22x2.54mm, IPC Low Density)
footprint RES_2512 (Chip Resistor, 2-Leads, Body 6.35x3.20mm, IPC Low Density)
pins: 1, 2

## Resistor_13
designator R?, comment 5.1K
footprint RES_0402 (Chip Resistor, 2-Leads, Body 1.00x0.50mm, IPC Low Density)
footprint RES_0603 (Chip Resistor, 2-Leads, Body 1.60x0.80mm, IPC Medium Density)
footprint RES_0805 (Chip Resistor, 2-Leads, Body 2.00x1.25mm, IPC Low Density)
footprint RES_1206 (Chip Resistor, 2-Leads, Body 3.30x1.60mm, IPC Medium Density)
footprint RES_1210 (Chip Resistor, 2-Leads, Body 3.22x2.54mm, IPC Low Density)
footprint RES_2512 (Chip Resistor, 2-Leads, Body 6.35x3.20mm, IPC Low Density)
pins: 1, 2

## Resistor_14
designator R?, comment 47K
footprint RES_0402 (Chip Resistor, 2-Leads, Body 1.00x0.50mm, IPC Low Density)
footprint RES_0603 (Chip Resistor, 2-Leads, Body 1.60x0.80mm, IPC Medium Density)
footprint RES_0805 (Chip Resistor, 2-Leads, Body 2.00x1.25mm, IPC Low Density)
footprint RES_1206 (Chip Resistor, 2-Leads, Body 3.30x1.60mm, IPC Medium Density)
footprint RES_1210 (Chip Resistor, 2-Leads, Body 3.22x2.54mm, IPC Low Density)
footprint RES_2512 (Chip Resistor, 2-Leads, Body 6.35x3.20mm, IPC Low Density)
pins: 1, 2

## Resistor_15
designator R?, comment 4.7K
footprint RES_0402 (Chip Resistor, 2-Leads, Body 1.00x0.50mm, IPC Low Density)
footprint RES_0603 (Chip Resistor, 2-Leads, Body 1.60x0.80mm, IPC Medium Density)
footprint RES_0805 (Chip Resistor, 2-Leads, Body 2.00x1.25mm, IPC Low Density)
footprint RES_1206 (Chip Resistor, 2-Leads, Body 3.30x1.60mm, IPC Medium Density)
footprint RES_1210 (Chip Resistor, 2-Leads, Body 3.22x2.54mm, IPC Low Density)
footprint RES_2512 (Chip Resistor, 2-Leads, Body 6.35x3.20mm, IPC Low Density)
pins: 1, 2

## Resistor_16
designator R?, comment 51R
footprint RES_0402 (Chip Resistor, 2-Leads, Body 1.00x0.50mm, IPC Low Density)
footprint RES_0603 (Chip Resistor, 2-Leads, Body 1.60x0.80mm, IPC Medium Density)
footprint RES_0805 (Chip Resistor, 2-Leads, Body 2.00x1.25mm, IPC Low Density)
footprint RES_1206 (Chip Resistor, 2-Leads, Body 3.30x1.60mm, IPC Medium Density)
footprint RES_1210 (Chip Resistor, 2-Leads, Body 3.22x2.54mm, IPC Low Density)
footprint RES_2512 (Chip Resistor, 2-Leads, Body 6.35x3.20mm, IPC Low Density)
pins: 1, 2

## Resistor_17
designator R?, comment 10R
footprint RES_0402 (Chip Resistor, 2-Leads, Body 1.00x0.50mm, IPC Low Density)
footprint RES_0603 (Chip Resistor, 2-Leads, Body 1.60x0.80mm, IPC Medium Density)
footprint RES_0805 (Chip Resistor, 2-Leads, Body 2.00x1.25mm, IPC Low Density)
footprint RES_1206 (Chip Resistor, 2-Leads, Body 3.30x1.60mm, IPC Medium Density)
footprint RES_1210 (Chip Resistor, 2-Leads, Body 3.22x2.54mm, IPC Low Density)
footprint RES_2512 (Chip Resistor, 2-Leads, Body 6.35x3.20mm, IPC Low Density)
pins: 1, 2

## Resonator
designator Y?, comment 40MHz
footprint Y-3225
pins: 1 OSCIN, 2 GND, 3 OSCOUT, 4 GND

## S-Diode
designator D?, comment SS34
Schottky diode
footprint MELF (MELF Diode, 2-Leads, Body 5.00x2.50mm, IPC Low Density)
footprint MINI-MELF (MELF Diode, 2-Leads, Body 3.50x1.45mm, IPC Low Density)
footprint SMA (Molded Diode, 2-Leads, Body 4.31x2.49mm, IPC Low Density)
footprint SMB (Molded Diode, 2-Leads, Body 4.31x3.62mm, IPC Low Density)
footprint SMC (Molded Diode, 2-Leads, Body 6.86x5.91mm, IPC Low Density)
pins: 1 A, 2 K

## S-Diode_1
designator D?, comment SS54
Schottky diode
footprint SMB (Molded Diode, 2-Leads, Body 4.31x3.62mm, IPC Low Density)
pins: 1 A, 2 K

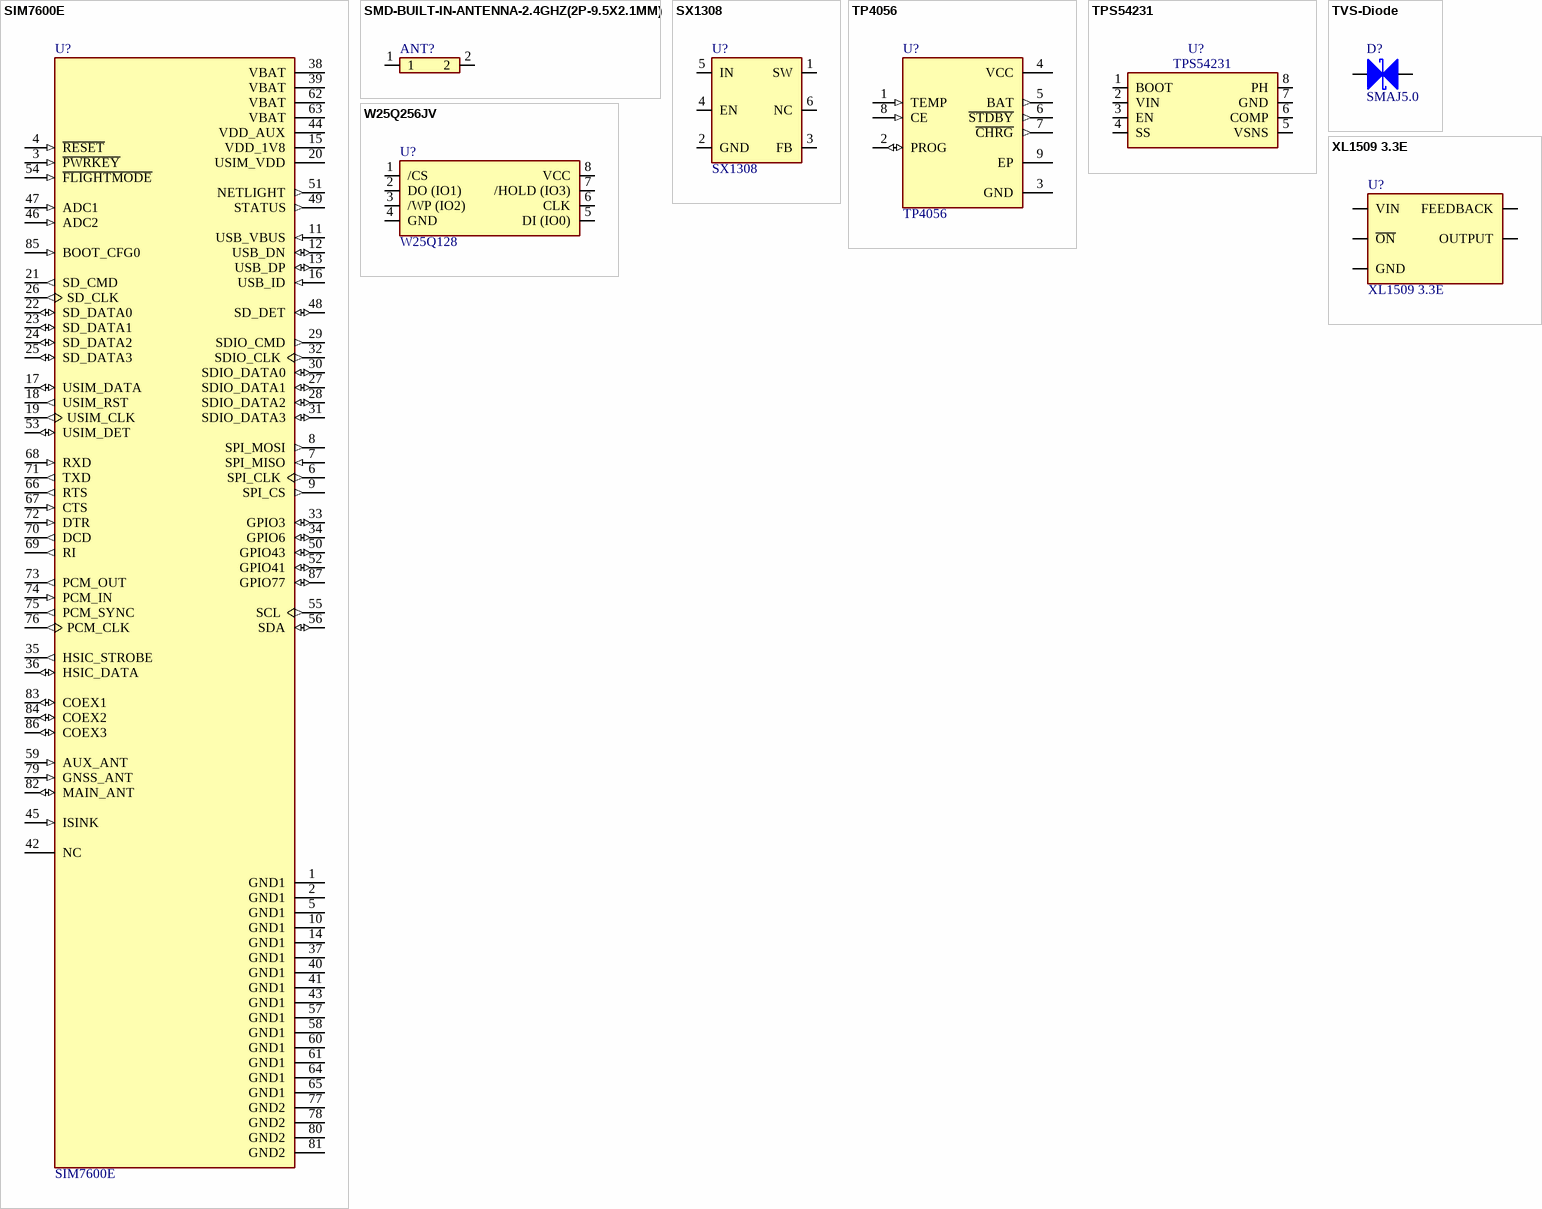
[diagram p2: symbols SIM7600E to XL1509 3.3E]

## SIM7600E
designator U?
LTE-FDD/LTE-TDD/HSPA+/UMTS/EDGE/GPRS/GSM Module On Module 10Mbps 800MHz/850MHz/900MHz/1800MHz/2100MHz/2300MHz/2500MHz/2600MHz 3.4V to 4.2V 24dBm; MF: SIMCom Wireless Solutions Limited; SnapEDA_Link: https://www.snapeda.com/parts/SIM7600E/SIMCom/view-part/?ref=snap; Package: SMD-87 SIMCom; Value: *; MP: SIM7600E; Check_prices: https://www.snapeda.com/parts/SIM7600E/SIMCom/view-part/?ref=eda
footprint XCVR_SIM7600E
pins: 1 GND1 (power), 2 GND1 (power), 3 ~{PWRKEY} (in), 4 ~{RESET} (in), 5 GND1 (power), 6 SPI_CLK (out), 7 SPI_MISO (in), 8 SPI_MOSI (out), 9 SPI_CS (out), 10 GND1 (power), 11 USB_VBUS (in), 12 USB_DN (io), 13 USB_DP (io), 14 GND1 (power), 15 VDD_1V8 (power), 16 USB_ID (in), 17 USIM_DATA (io), 18 USIM_RST (out), 19 USIM_CLK (out), 20 USIM_VDD (power), 21 SD_CMD (out), 22 SD_DATA0 (io), 23 SD_DATA1 (io), 24 SD_DATA2 (io), 25 SD_DATA3 (io), 26 SD_CLK (out), 27 SDIO_DATA1 (io), 28 SDIO_DATA2 (io), 29 SDIO_CMD (out), 30 SDIO_DATA0 (io), 31 SDIO_DATA3 (io), 32 SDIO_CLK (out), 33 GPIO3 (io), 34 GPIO6 (io), 35 HSIC_STROBE (out), 36 HSIC_DATA (io), 37 GND1 (power), 38 VBAT (power), 39 VBAT (power), 40 GND1 (power), 41 GND1 (power), 42 NC, 43 GND1 (power), 44 VDD_AUX (power), 45 ISINK (in), 46 ADC2 (in), 47 ADC1 (in), 48 SD_DET (io), 49 STATUS (out), 50 GPIO43 (io), 51 NETLIGHT (out), 52 GPIO41 (io), 53 USIM_DET (io), 54 ~{FLIGHTMODE} (in), 55 SCL (out), 56 SDA (io), 57 GND1 (power), 58 GND1 (power), 59 AUX_ANT (in), 60 GND1 (power), 61 GND1 (power), 62 VBAT (power), 63 VBAT (power), 64 GND1 (power), 65 GND1 (power), 66 RTS (out), 67 CTS (in), 68 RXD (in), 69 RI (out), 70 DCD (out), 71 TXD (out), 72 DTR (in), 73 PCM_OUT (out), 74 PCM_IN (in), 75 PCM_SYNC (out), 76 PCM_CLK (out), 77 GND2 (power), 78 GND2 (power), 79 GNSS_ANT (in), 80 GND2 (power), 81 GND2 (power), 82 MAIN_ANT (io), 83 COEX1 (io), 84 COEX2 (io), 85 BOOT_CFG0 (in), 86 COEX3 (io), 87 GPIO77 (io)

## SMD-BUILT-IN-ANTENNA-2.4GHZ(2P-9.5X2.1MM)
designator ANT?  (value not drawn)
318010004; MF: RainSun; MP: AN9520; Package: FakePackage u; SnapEDA_Link: https://www.snapeda.com/parts/AN9520/RainSun/view-part/106325/?ref=snap; Price: None; Check_prices: https://www.snapeda.com/parts/AN9520/RainSun/view-part/106325/?ref=eda; Value: *; Availability: No availability data
footprint ANT2-SMD-9.5X2.1X1.0MM
pins: 1 (io), 2 (io)

## SX1308
designator U?
1.2MHz 2A Step Up Converter 85T
footprint SOT23-6 (SOT23, 6-Leads, Body 2.90x2.80mm, Pitch 0.95mm, IPC Medium Density)
pins: 1 SW, 2 GND, 3 FB, 4 EN, 5 IN, 6 NC

## TP4056
designator U?
Complete single cell Li-Ion battery with a constant current / constant voltage linear charger; MF: NanJing Top Power ASIC Corp.; Check_prices: https://www.snapeda.com/parts/TP4056/NanJing+Top+Power+ASIC+Corp./view-part/?ref=eda; SnapEDA_Link: https://www.snapeda.com/parts/TP4056/NanJing+Top+Power+ASIC+Corp./view-part/?ref=snap; Price: None; Availability: Not in stock; Package: Package; MP: TP4056; Value: *
footprint SOP127P600X175-9N
pins: 1 TEMP (in), 2 PROG (io), 3 GND (power), 4 VCC (power), 5 BAT (out), 6 ~{STDBY} (out), 7 ~{CHRG} (out), 8 CE (in), 9 EP

## TPS54231
designator U?
2-A, 28-V Input, Step-Down DC-DC Converter
footprint SOIC8-1.75H (SOIC, 8-Leads, Body 4.91x3.90mm, Pitch 1.27mm, IPC Medium Density)
pins: 1 BOOT, 2 VIN, 3 EN, 4 SS, 5 VSNS, 6 COMP, 7 GND, 8 PH

## TVS-Diode
designator D?, comment SMAJ5.0
TVS diode
footprint MELF (MELF Diode, 2-Leads, Body 5.00x2.50mm, IPC Low Density)
footprint MINI-MELF (MELF Diode, 2-Leads, Body 3.50x1.45mm, IPC Low Density)
footprint SMA (Molded Diode, 2-Leads, Body 4.31x2.49mm, IPC Low Density)
footprint SMB (Molded Diode, 2-Leads, Body 4.31x3.62mm, IPC Low Density)
footprint SMC (Molded Diode, 2-Leads, Body 6.86x5.91mm, IPC Low Density)
pins: 1 K, 2 A

## W25Q256JV
designator U?, comment W25Q128
256M-bit (32MB) Serial Flash memory
footprint WSON 8-PAD (6X8) (PSON, 8-Leads, Body 6.00x8.00mm, Pitch 1.27mm, Thermal Pad 4.30x3.40mm, IPC Low Density)
footprint SOIC127P790X216-8N (SOIC, 8-Leads, Body 5.28x5.28mm, Pitch 1.27mm, IPC Medium Density)
pins: 1 /CS, 2 DO (IO1), 3 /WP (IO2), 4 GND, 5 DI (IO0), 6 CLK, 7 /HOLD (IO3), 8 VCC

## XL1509 3.3E
designator U?
2A 150KHz 40V Buck DC to DC Fixed 3.3V
footprint SOIC8-1.75H (SOIC, 8-Leads, Body 4.91x3.90mm, Pitch 1.27mm, IPC Medium Density)
pins: 1 VIN, 2 OUTPUT, 3 FEEDBACK, 4 ~{ON}, 5,6,7,8 GND